# Altium footprint library Microcontrollers.PcbLib: 14 footprints
Each footprint in its own frame and in the unit in brackets; x right, y up, seen from the top. Pads: shape width x height; smd on the part's side, far side on the other; paste and mask are expansions set on the pad; w line width, h text height; cw(c..) or ccw(c..) is an arc to the next point about the centre after c.
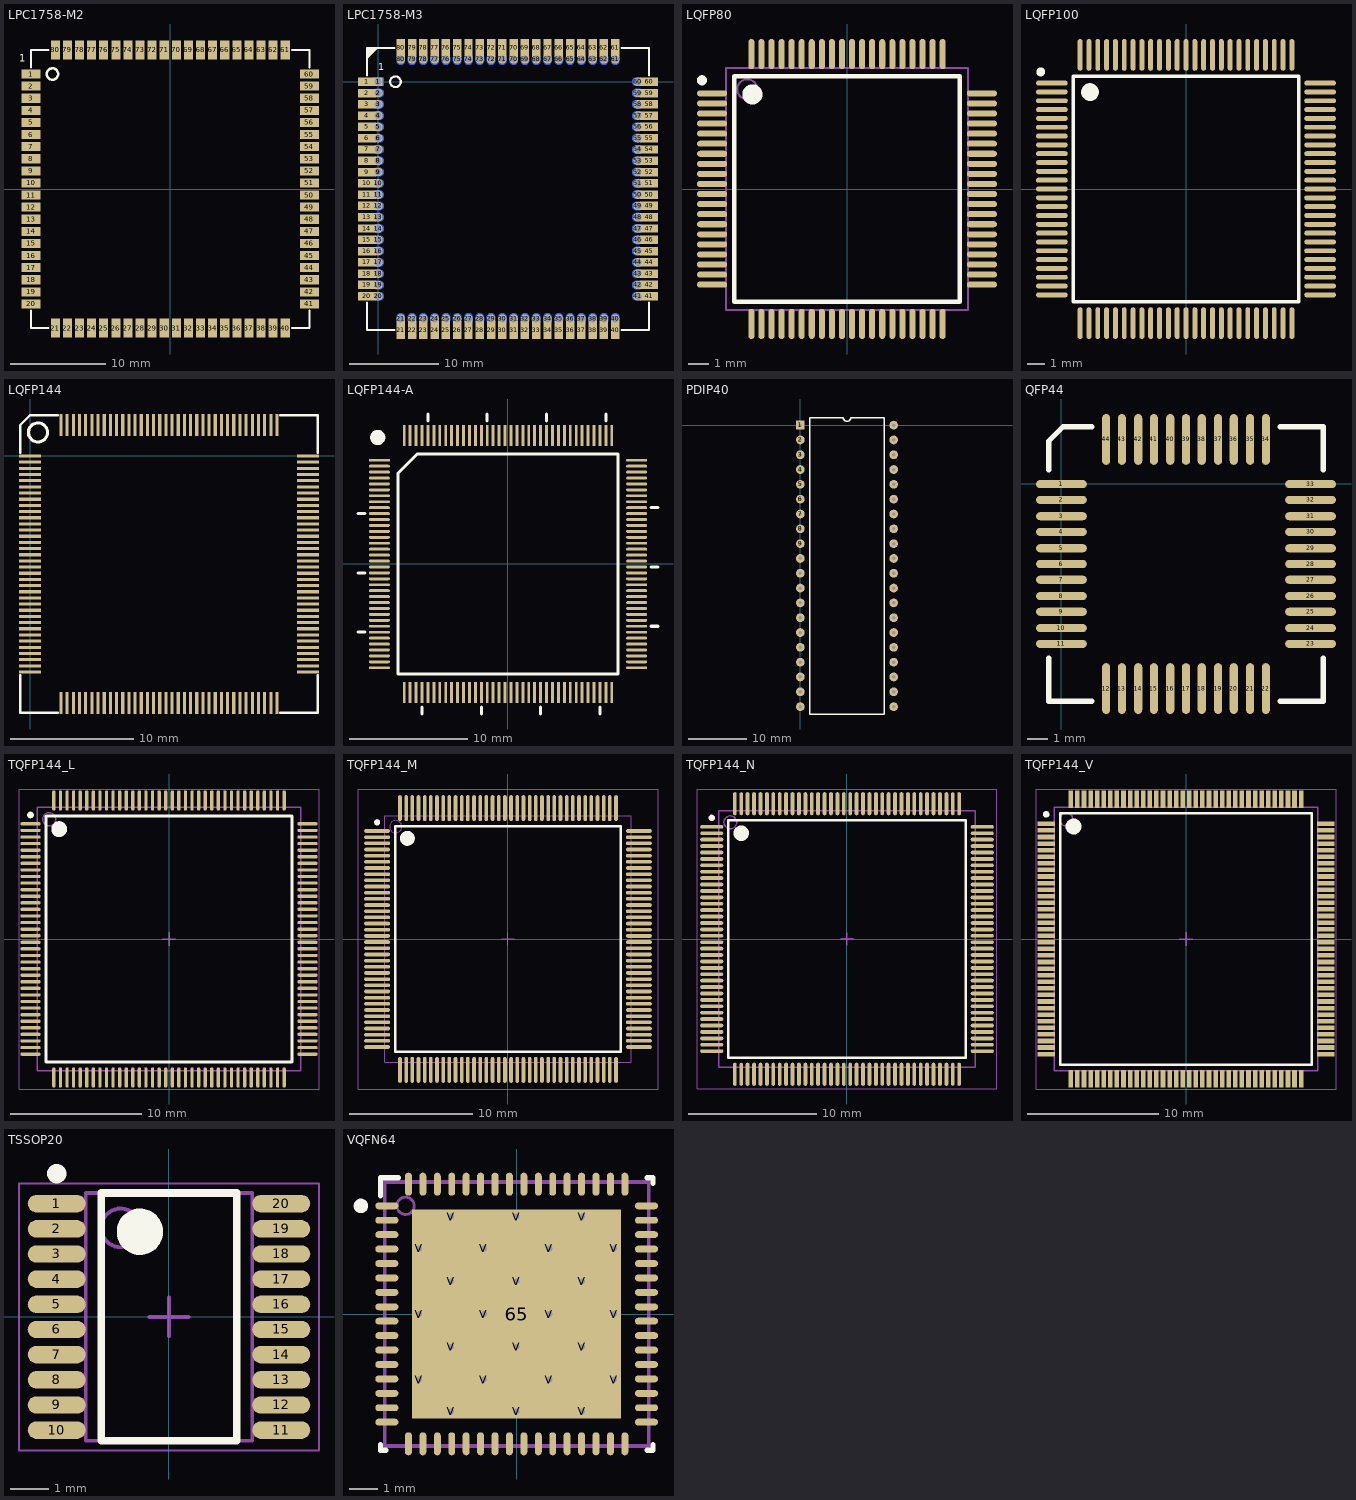
[diagram p0: the footprints below, top view; thin cyan lines are the x and y axes]

## LPC1758-M2 [mm] "LPC1758 Module"
pads (80):
  rect 2x0.95 smd mask+0.051: 1(-14.605,12.065) 2(-14.605,10.795) 3(-14.605,9.525) 4(-14.605,8.255) 5(-14.605,6.985) 6(-14.605,5.715) 7(-14.605,4.445) 8(-14.605,3.175) 9(-14.605,1.905) 10(-14.605,0.635) 11(-14.605,-0.635) 12(-14.605,-1.905) 13(-14.605,-3.175) 14(-14.605,-4.445) 15(-14.605,-5.715) 16(-14.605,-6.985) 17(-14.605,-8.255) 18(-14.605,-9.525) 19(-14.605,-10.795) 20(-14.605,-12.065) 41(14.605,-12.065) 42(14.605,-10.795) 43(14.605,-9.525) 44(14.605,-8.255) 45(14.605,-6.985) 46(14.605,-5.715) 47(14.605,-4.445) 48(14.605,-3.175) 49(14.605,-1.905) 50(14.605,-0.635) 51(14.605,0.635) 52(14.605,1.905) 53(14.605,3.175) 54(14.605,4.445) 55(14.605,5.715) 56(14.605,6.985) 57(14.605,8.255) 58(14.605,9.525) 59(14.605,10.795) 60(14.605,12.065)
  rect 0.95x2 smd mask+0.051: 21(-12.065,-14.605) 22(-10.795,-14.605) 23(-9.525,-14.605) 24(-8.255,-14.605) 25(-6.985,-14.605) 26(-5.715,-14.605) 27(-4.445,-14.605) 28(-3.175,-14.605) 29(-1.905,-14.605) 30(-0.635,-14.605) 31(0.635,-14.605) 32(1.905,-14.605) 33(3.175,-14.605) 34(4.445,-14.605) 35(5.715,-14.605) 36(6.985,-14.605) 37(8.255,-14.605) 38(9.525,-14.605) 39(10.795,-14.605) 40(12.065,-14.605) 61(12.065,14.605) 62(10.795,14.605) 63(9.525,14.605) 64(8.255,14.605) 65(6.985,14.605) 66(5.715,14.605) 67(4.445,14.605) 68(3.175,14.605) 69(1.905,14.605) 70(0.635,14.605) 71(-0.635,14.605) 72(-1.905,14.605) 73(-3.175,14.605) 74(-4.445,14.605) 75(-5.715,14.605) 76(-6.985,14.605) 77(-8.255,14.605) 78(-9.525,14.605) 79(-10.795,14.605) 80(-12.065,14.605)
Top Overlay:
  circle w0.254: c-12.365,12.065 r0.6
  lines w0.2: -14.605,-12.755 -14.605,-14.605 -12.755,-14.605 ; -14.605,12.765 -14.605,14.605 -12.755,14.605 ; 12.745,-14.605 14.605,-14.605 14.605,-12.755 ; 12.745,14.605 14.605,14.605 14.605,12.765
  text "1" at -15.875,13.335 h0.76

## LPC1758-M3 [mm] "LPC1758 Module"
pads (240):
  rect 2x0.95 smd mask+0.051: 1(-1.27,0) 2(-1.27,-1.27) 3(-1.27,-2.54) 4(-1.27,-3.81) 5(-1.27,-5.08) 6(-1.27,-6.35) 7(-1.27,-7.62) 8(-1.27,-8.89) 9(-1.27,-10.16) 10(-1.27,-11.43) 11(-1.27,-12.7) 12(-1.27,-13.97) 13(-1.27,-15.24) 14(-1.27,-16.51) 15(-1.27,-17.78) 16(-1.27,-19.05) 17(-1.27,-20.32) 18(-1.27,-21.59) 19(-1.27,-22.86) 20(-1.27,-24.13) 41(30.48,-24.13) 42(30.48,-22.86) 43(30.48,-21.59) 44(30.48,-20.32) 45(30.48,-19.05) 46(30.48,-17.78) 47(30.48,-16.51) 48(30.48,-15.24) 49(30.48,-13.97) 50(30.48,-12.7) 51(30.48,-11.43) 52(30.48,-10.16) 53(30.48,-8.89) 54(30.48,-7.62) 55(30.48,-6.35) 56(30.48,-5.08) 57(30.48,-3.81) 58(30.48,-2.54) 59(30.48,-1.27) 60(30.48,0)
  rect 1x0.94 hole 0.8 mask+0.051: 1(0,0)
  rect 1.3x0.95 smd far side mask+0.051: 1(0,0)
  oval 1x0.94 hole 0.8 mask+0.051: 2(0,-1.27) 3(0,-2.54) 4(0,-3.81) 5(0,-5.08) 6(0,-6.35) 7(0,-7.62) 8(0,-8.89) 9(0,-10.16) 10(0,-11.43) 11(0,-12.7) 12(0,-13.97) 13(0,-15.24) 14(0,-16.51) 15(0,-17.78) 16(0,-19.05) 17(0,-20.32) 18(0,-21.59) 19(0,-22.86) 20(0,-24.13) 41(29.21,-24.13) 42(29.21,-22.86) 43(29.21,-21.59) 44(29.21,-20.32) 45(29.21,-19.05) 46(29.21,-17.78) 47(29.21,-16.51) 48(29.21,-15.24) 49(29.21,-13.97) 50(29.21,-12.7) 51(29.21,-11.43) 52(29.21,-10.16) 53(29.21,-8.89) 54(29.21,-7.62) 55(29.21,-6.35) 56(29.21,-5.08) 57(29.21,-3.81) 58(29.21,-2.54) 59(29.21,-1.27) 60(29.21,0)
  oval 1.3x0.95 smd far side mask+0.051: 2(0,-1.27) 3(0,-2.54) 4(0,-3.81) 5(0,-5.08) 6(0,-6.35) 7(0,-7.62) 8(0,-8.89) 9(0,-10.16) 10(0,-11.43) 11(0,-12.7) 12(0,-13.97) 13(0,-15.24) 14(0,-16.51) 15(0,-17.78) 16(0,-19.05) 17(0,-20.32) 18(0,-21.59) 19(0,-22.86) 20(0,-24.13) 41(29.21,-24.13) 42(29.21,-22.86) 43(29.21,-21.59) 44(29.21,-20.32) 45(29.21,-19.05) 46(29.21,-17.78) 47(29.21,-16.51) 48(29.21,-15.24) 49(29.21,-13.97) 50(29.21,-12.7) 51(29.21,-11.43) 52(29.21,-10.16) 53(29.21,-8.89) 54(29.21,-7.62) 55(29.21,-6.35) 56(29.21,-5.08) 57(29.21,-3.81) 58(29.21,-2.54) 59(29.21,-1.27) 60(29.21,0)
  rect 0.95x2 smd mask+0.051: 21(2.54,-27.94) 22(3.81,-27.94) 23(5.08,-27.94) 24(6.35,-27.94) 25(7.62,-27.94) 26(8.89,-27.94) 27(10.16,-27.94) 28(11.43,-27.94) 29(12.7,-27.94) 30(13.97,-27.94) 31(15.24,-27.94) 32(16.51,-27.94) 33(17.78,-27.94) 34(19.05,-27.94) 35(20.32,-27.94) 36(21.59,-27.94) 37(22.86,-27.94) 38(24.13,-27.94) 39(25.4,-27.94) 40(26.67,-27.94) 61(26.67,3.81) 62(25.4,3.81) 63(24.13,3.81) 64(22.86,3.81) 65(21.59,3.81) 66(20.32,3.81) 67(19.05,3.81) 68(17.78,3.81) 69(16.51,3.81) 70(15.24,3.81) 71(13.97,3.81) 72(12.7,3.81) 73(11.43,3.81) 74(10.16,3.81) 75(8.89,3.81) 76(7.62,3.81) 77(6.35,3.81) 78(5.08,3.81) 79(3.81,3.81) 80(2.54,3.81)
  oval 0.94x1 hole 0.8 mask+0.051: 21(2.54,-26.67) 22(3.81,-26.67) 23(5.08,-26.67) 24(6.35,-26.67) 25(7.62,-26.67) 26(8.89,-26.67) 27(10.16,-26.67) 28(11.43,-26.67) 29(12.7,-26.67) 30(13.97,-26.67) 31(15.24,-26.67) 32(16.51,-26.67) 33(17.78,-26.67) 34(19.05,-26.67) 35(20.32,-26.67) 36(21.59,-26.67) 37(22.86,-26.67) 38(24.13,-26.67) 39(25.4,-26.67) 40(26.67,-26.67) 61(26.67,2.54) 62(25.4,2.54) 63(24.13,2.54) 64(22.86,2.54) 65(21.59,2.54) 66(20.32,2.54) 67(19.05,2.54) 68(17.78,2.54) 69(16.51,2.54) 70(15.24,2.54) 71(13.97,2.54) 72(12.7,2.54) 73(11.43,2.54) 74(10.16,2.54) 75(8.89,2.54) 76(7.62,2.54) 77(6.35,2.54) 78(5.08,2.54) 79(3.81,2.54) 80(2.54,2.54)
  oval 0.95x1.3 smd far side mask+0.051: 21(2.54,-26.67) 22(3.81,-26.67) 23(5.08,-26.67) 24(6.35,-26.67) 25(7.62,-26.67) 26(8.89,-26.67) 27(10.16,-26.67) 28(11.43,-26.67) 29(12.7,-26.67) 30(13.97,-26.67) 31(15.24,-26.67) 32(16.51,-26.67) 33(17.78,-26.67) 34(19.05,-26.67) 35(20.32,-26.67) 36(21.59,-26.67) 37(22.86,-26.67) 38(24.13,-26.67) 39(25.4,-26.67) 40(26.67,-26.67) 61(26.67,2.54) 62(25.4,2.54) 63(24.13,2.54) 64(22.86,2.54) 65(21.59,2.54) 66(20.32,2.54) 67(19.05,2.54) 68(17.78,2.54) 69(16.51,2.54) 70(15.24,2.54) 71(13.97,2.54) 72(12.7,2.54) 73(11.43,2.54) 74(10.16,2.54) 75(8.89,2.54) 76(7.62,2.54) 77(6.35,2.54) 78(5.08,2.54) 79(3.81,2.54) 80(2.54,2.54)
Top Overlay:
  circle w0.254: c1.94,0 r0.6
  region: -1.27,3.81 0,3.81 -1.27,2.54
  lines w0.2: -1.27,-24.82 -1.27,-27.94 1.85,-27.94 ; -1.27,0.7 -1.27,3.81 1.85,3.81 ; 27.35,-27.94 30.48,-27.94 30.48,-24.82 ; 27.36,3.81 30.48,3.81 30.48,0.7
  text "1" at 0,1.27 h0.76

## LQFP80 [mm] "12X12X05P"
pads (80):
  oval 1.5x0.3 smd: 1(-6.7,4.75) 2(-6.7,4.25) 3(-6.7,3.75) 4(-6.7,3.25) 5(-6.7,2.75) 6(-6.7,2.25) 7(-6.7,1.75) 8(-6.7,1.25) 9(-6.7,0.75) 10(-6.7,0.25) 11(-6.7,-0.25) 12(-6.7,-0.75) 13(-6.7,-1.25) 14(-6.7,-1.75) 15(-6.7,-2.25) 16(-6.7,-2.75) 17(-6.7,-3.25) 18(-6.7,-3.75) 19(-6.7,-4.25) 20(-6.7,-4.75) 41(6.7,-4.75) 42(6.7,-4.25) 43(6.7,-3.75) 44(6.7,-3.25) 45(6.7,-2.75) 46(6.7,-2.25) 47(6.7,-1.75) 48(6.7,-1.25) 49(6.7,-0.75) 50(6.7,-0.25) 51(6.7,0.25) 52(6.7,0.75) 53(6.7,1.25) 54(6.7,1.75) 55(6.7,2.25) 56(6.7,2.75) 57(6.7,3.25) 58(6.7,3.75) 59(6.7,4.25) 60(6.7,4.75)
  oval 0.3x1.5 smd: 21(-4.75,-6.7) 22(-4.25,-6.7) 23(-3.75,-6.7) 24(-3.25,-6.7) 25(-2.75,-6.7) 26(-2.25,-6.7) 27(-1.75,-6.7) 28(-1.25,-6.7) 29(-0.75,-6.7) 30(-0.25,-6.7) 31(0.25,-6.7) 32(0.75,-6.7) 33(1.25,-6.7) 34(1.75,-6.7) 35(2.25,-6.7) 36(2.75,-6.7) 37(3.25,-6.7) 38(3.75,-6.7) 39(4.25,-6.7) 40(4.75,-6.7) 61(4.75,6.7) 62(4.25,6.7) 63(3.75,6.7) 64(3.25,6.7) 65(2.75,6.7) 66(2.25,6.7) 67(1.75,6.7) 68(1.25,6.7) 69(0.75,6.7) 70(0.25,6.7) 71(-0.25,6.7) 72(-0.75,6.7) 73(-1.25,6.7) 74(-1.75,6.7) 75(-2.25,6.7) 76(-2.75,6.7) 77(-3.25,6.7) 78(-3.75,6.7) 79(-4.25,6.7) 80(-4.75,6.7)
Top Overlay:
  circle w0.5: c-4.7,4.7 r0.25
  circle w0.25: c-7.2,5.4 r0.125
  lines w0.2: -5.6,-5.6 -5.6,5.6 5.6,5.6 5.6,-5.6 -5.6,-5.6
Mechanical 15:
  circle w0.1: c-4.95,4.95 r0.5
  lines w0.1: -6,-6 -6,6 6,6 6,-6 -6,-6

## LQFP100 [mm] "LQFP100  LPC1768"
height 1.6
pads (100):
  oval 1.8x0.28 smd: 1(-7.6,6) 2(-7.6,5.5) 3(-7.6,5) 4(-7.6,4.5) 5(-7.6,4) 6(-7.6,3.5) 7(-7.6,3) 8(-7.6,2.5) 9(-7.6,2) 10(-7.6,1.5) 11(-7.6,1) 12(-7.6,0.5) 13(-7.6,0) 14(-7.6,-0.5) 15(-7.6,-1) 16(-7.6,-1.5) 17(-7.6,-2) 18(-7.6,-2.5) 19(-7.6,-3) 20(-7.6,-3.5) 21(-7.6,-4) 22(-7.6,-4.5) 23(-7.6,-5) 24(-7.6,-5.5) 25(-7.6,-6) 51(7.6,-6) 52(7.6,-5.5) 53(7.6,-5) 54(7.6,-4.5) 55(7.6,-4) 56(7.6,-3.5) 57(7.6,-3) 58(7.6,-2.5) 59(7.6,-2) 60(7.6,-1.5) 61(7.6,-1) 62(7.6,-0.5) 63(7.6,0) 64(7.6,0.5) 65(7.6,1) 66(7.6,1.5) 67(7.6,2) 68(7.6,2.5) 69(7.6,3) 70(7.6,3.5) 71(7.6,4) 72(7.6,4.5) 73(7.6,5) 74(7.6,5.5) 75(7.6,6)
  oval 0.28x1.8 smd: 26(-6,-7.6) 27(-5.5,-7.6) 28(-5,-7.6) 29(-4.5,-7.6) 30(-4,-7.6) 31(-3.5,-7.6) 32(-3,-7.6) 33(-2.5,-7.6) 34(-2,-7.6) 35(-1.5,-7.6) 36(-1,-7.6) 37(-0.5,-7.6) 38(0,-7.6) 39(0.5,-7.6) 40(1,-7.6) 41(1.5,-7.6) 42(2,-7.6) 43(2.5,-7.6) 44(3,-7.6) 45(3.5,-7.6) 46(4,-7.6) 47(4.5,-7.6) 48(5,-7.6) 49(5.5,-7.6) 50(6,-7.6) 76(6,7.6) 77(5.5,7.6) 78(5,7.6) 79(4.5,7.6) 80(4,7.6) 81(3.5,7.6) 82(3,7.6) 83(2.5,7.6) 84(2,7.6) 85(1.5,7.6) 86(1,7.6) 87(0.5,7.6) 88(0,7.6) 89(-0.5,7.6) 90(-1,7.6) 91(-1.5,7.6) 92(-2,7.6) 93(-2.5,7.6) 94(-3,7.6) 95(-3.5,7.6) 96(-4,7.6) 97(-4.5,7.6) 98(-5,7.6) 99(-5.5,7.6) 100(-6,7.6)
Top Overlay:
  circle w0.5: c-5.442,5.493 r0.25
  circle w0.25: c-8.233,6.635 r0.125
  lines w0.2: -6.4,-6.4 6.4,-6.4 6.4,6.4 -6.4,6.4 -6.4,-6.4

## LQFP144 [mm]
pads (144):
  rect 1.8x0.254 smd: 1(-0.009,0.001) 2(-0.009,-0.499) 3(-0.009,-0.999) 4(-0.009,-1.499) 5(-0.009,-1.999) 6(-0.009,-2.499) 7(-0.009,-2.999) 8(-0.009,-3.499) 9(-0.009,-3.999) 10(-0.009,-4.499) 11(-0.009,-4.999) 12(-0.009,-5.499) 13(-0.009,-5.999) 14(-0.009,-6.499) 15(-0.009,-6.999) 16(-0.009,-7.499) 17(-0.009,-7.999) 18(-0.009,-8.499) 19(-0.009,-8.999) 20(-0.009,-9.499) 21(-0.009,-9.999) 22(-0.009,-10.499) 23(-0.009,-10.999) 24(-0.009,-11.499) 25(-0.009,-11.999) 26(-0.009,-12.499) 27(-0.009,-12.999) 28(-0.009,-13.499) 29(-0.009,-13.999) 30(-0.009,-14.499) 31(-0.009,-14.999) 32(-0.009,-15.499) 33(-0.009,-15.999) 34(-0.009,-16.499) 35(-0.009,-16.999) 36(-0.009,-17.499) 73(22.491,-17.499) 74(22.491,-16.999) 75(22.491,-16.499) 76(22.491,-15.999) 77(22.491,-15.499) 78(22.491,-14.999) 79(22.491,-14.499) 80(22.491,-13.999) 81(22.491,-13.499) 82(22.491,-12.999) 83(22.491,-12.499) 84(22.491,-11.999) 85(22.491,-11.499) 86(22.491,-10.999) 87(22.491,-10.499) 88(22.491,-9.999) 89(22.491,-9.499) 90(22.491,-8.999) 91(22.491,-8.499) 92(22.491,-7.999) 93(22.491,-7.499) 94(22.491,-6.999) 95(22.491,-6.499) 96(22.491,-5.999) 97(22.491,-5.499) 98(22.491,-4.999) 99(22.491,-4.499) 100(22.491,-3.999) 101(22.491,-3.499) 102(22.491,-2.999) 103(22.491,-2.499) 104(22.491,-1.999) 105(22.491,-1.499) 106(22.491,-0.999) 107(22.491,-0.499) 108(22.491,0.001)
  rect 0.254x1.8 smd: 37(2.491,-19.999) 38(2.991,-19.999) 39(3.491,-19.999) 40(3.991,-19.999) 41(4.491,-19.999) 42(4.991,-19.999) 43(5.491,-19.999) 44(5.991,-19.999) 45(6.491,-19.999) 46(6.991,-19.999) 47(7.491,-19.999) 48(7.991,-19.999) 49(8.491,-19.999) 50(8.991,-19.999) 51(9.491,-19.999) 52(9.991,-19.999) 53(10.491,-19.999) 54(10.991,-19.999) 55(11.491,-19.999) 56(11.991,-19.999) 57(12.491,-19.999) 58(12.991,-19.999) 59(13.491,-19.999) 60(13.991,-19.999) 61(14.491,-19.999) 62(14.991,-19.999) 63(15.491,-19.999) 64(15.991,-19.999) 65(16.491,-19.999) 66(16.991,-19.999) 67(17.491,-19.999) 68(17.991,-19.999) 69(18.491,-19.999) 70(18.991,-19.999) 71(19.491,-19.999) 72(19.991,-19.999) 109(19.991,2.501) 110(19.491,2.501) 111(18.991,2.501) 112(18.491,2.501) 113(17.991,2.501) 114(17.491,2.501) 115(16.991,2.501) 116(16.491,2.501) 117(15.991,2.501) 118(15.491,2.501) 119(14.991,2.501) 120(14.491,2.501) 121(13.991,2.501) 122(13.491,2.501) 123(12.991,2.501) 124(12.491,2.501) 125(11.991,2.501) 126(11.491,2.501) 127(10.991,2.501) 128(10.491,2.501) 129(9.991,2.501) 130(9.491,2.501) 131(8.991,2.501) 132(8.491,2.501) 133(7.991,2.501) 134(7.491,2.501) 135(6.991,2.501) 136(6.491,2.501) 137(5.991,2.501) 138(5.491,2.501) 139(4.991,2.501) 140(4.491,2.501) 141(3.991,2.501) 142(3.491,2.501) 143(2.991,2.501) 144(2.491,2.501)
Top Overlay:
  circle w0.254: c0.624,1.905 r0.773
  lines w0.2: -0.809,-17.749 -0.809,-20.799 2.241,-20.799 ; -0.809,0.251 -0.809,2.501 -0.009,3.301 2.241,3.301 ; 20.241,-20.799 23.291,-20.799 23.291,-17.749 ; 20.241,3.301 23.291,3.301 23.291,0.251

## LQFP144-A [mil]
pads (144):
  rect 70x9.5 smd: 1(-427.16,344.49)
  oval 70x9.5 smd: 2(-427.16,324.8) 3(-427.16,305.12) 4(-427.16,285.43) 5(-427.16,265.75) 6(-427.16,246.06) 7(-427.16,226.38) 8(-427.16,206.69) 9(-427.16,187.01) 10(-427.16,167.32) 11(-427.16,147.64) 12(-427.16,127.95) 13(-427.16,108.27) 14(-427.16,88.58) 15(-427.16,68.9) 16(-427.16,49.21) 17(-427.16,29.53) 18(-427.16,9.84) 19(-427.16,-9.84) 20(-427.16,-29.53) 21(-427.16,-49.21) 22(-427.16,-68.9) 23(-427.16,-88.58) 24(-427.16,-108.27) 25(-427.16,-127.95) 26(-427.16,-147.64) 27(-427.16,-167.32) 28(-427.16,-187.01) 29(-427.16,-206.69) 30(-427.16,-226.38) 31(-427.16,-246.06) 32(-427.16,-265.75) 33(-427.16,-285.43) 34(-427.16,-305.12) 35(-427.16,-324.8) 36(-427.16,-344.49) 73(427.16,-344.49) 74(427.16,-324.8) 75(427.16,-305.12) 76(427.16,-285.43) 77(427.16,-265.75) 78(427.16,-246.06) 79(427.16,-226.38) 80(427.16,-206.69) 81(427.16,-187.01) 82(427.16,-167.32) 83(427.16,-147.64) 84(427.16,-127.95) 85(427.16,-108.27) 86(427.16,-88.58) 87(427.16,-68.9) 88(427.16,-49.21) 89(427.16,-29.53) 90(427.16,-9.84) 91(427.16,9.84) 92(427.16,29.53) 93(427.16,49.21) 94(427.16,68.9) 95(427.16,88.58) 96(427.16,108.27) 97(427.16,127.95) 98(427.16,147.64) 99(427.16,167.32) 100(427.16,187.01) 101(427.16,206.69) 102(427.16,226.38) 103(427.16,246.06) 104(427.16,265.75) 105(427.16,285.43) 106(427.16,305.12) 107(427.16,324.8) 108(427.16,344.49)
  rect 9.5x70 smd: 37(-344.49,-427.16) 38(-324.8,-427.16) 39(-305.12,-427.16) 40(-285.43,-427.16) 41(-265.75,-427.16) 42(-246.06,-427.16) 43(-226.38,-427.16) 44(-206.69,-427.16) 45(-187.01,-427.16) 46(-167.32,-427.16) 47(-147.64,-427.16) 48(-127.95,-427.16) 49(-108.27,-427.16) 50(-88.58,-427.16) 51(-68.9,-427.16) 52(-49.21,-427.16) 53(-29.53,-427.16) 54(-9.84,-427.16) 55(9.84,-427.16) 56(29.53,-427.16) 57(49.21,-427.16) 58(68.9,-427.16) 59(88.58,-427.16) 60(108.27,-427.16) 61(127.95,-427.16) 62(147.64,-427.16) 63(167.32,-427.16) 64(187.01,-427.16) 65(206.69,-427.16) 66(226.38,-427.16) 67(246.06,-427.16) 68(265.75,-427.16) 69(285.43,-427.16) 70(305.12,-427.16) 71(324.8,-427.16) 72(344.49,-427.16) 109(344.49,427.17) 110(324.8,427.17) 111(305.12,427.17) 112(285.43,427.17) 113(265.75,427.17) 114(246.06,427.17) 115(226.38,427.17) 116(206.69,427.17) 117(187.01,427.17) 118(167.32,427.17) 119(147.64,427.17) 120(127.95,427.17) 121(108.27,427.17) 122(88.58,427.17) 123(68.9,427.17) 124(49.21,427.17) 125(29.53,427.17) 126(9.84,427.17) 127(-9.84,427.17) 128(-29.53,427.17) 129(-49.21,427.17) 130(-68.9,427.17) 131(-88.58,427.17) 132(-108.27,427.17) 133(-127.95,427.17) 134(-147.64,427.17) 135(-167.32,427.17) 136(-187.01,427.17) 137(-206.69,427.17) 138(-226.38,427.17) 139(-246.06,427.17) 140(-265.75,427.17) 141(-285.43,427.17) 142(-305.12,427.17) 143(-324.8,427.17) 144(-344.49,427.17)
Top Overlay:
  circle w25: c-432.5,420 r12.5
  lines w10: -498.03,-226.34 -474.53,-226.34 ; -498.03,-29.53 -474.53,-29.53 ; -498.03,167.32 -474.41,167.32 ; -285.43,-498.03 -285.43,-474.41 ; -265.67,474.37 -265.67,498.03 ; -88.66,-498.03 -88.66,-474.41 ; -68.97,474.37 -68.97,498.03 ; 108.23,-498.03 108.23,-474.41 ; 127.91,474.37 127.91,498.03 ; 305.12,-498.03 305.12,-474.41 ; 324.69,474.37 324.69,498.03 ; 474.45,-206.69 498.03,-206.69 ; 474.45,-9.84 498.03,-9.84 ; 474.45,187.09 498.03,187.09 ; -364.76,-364.76 -364.76,302.36 -302.36,364.76 364.76,364.76 364.76,-364.76 -364.76,-364.76

## PDIP40 [mm]
pads (40):
  rect 1.5x1.5 hole 0.6: 1(0,0)
  round 1.5 hole 0.6: 2(0,-2.54) 3(0,-5.08) 4(0,-7.62) 5(0,-10.16) 6(0,-12.7) 7(0,-15.24) 8(0,-17.78) 9(0,-20.32) 10(0,-22.86) 11(0,-25.4) 12(0,-27.94) 13(0,-30.48) 14(0,-33.02) 15(0,-35.56) 16(0,-38.1) 17(0,-40.64) 18(0,-43.18) 19(0,-45.72) 20(0,-48.26) 21(16,-48.26) 22(16,-45.72) 23(16,-43.18) 24(16,-40.64) 25(16,-38.1) 26(16,-35.56) 27(16,-33.02) 28(16,-30.48) 29(16,-27.94) 30(16,-25.4) 31(16,-22.86) 32(16,-20.32) 33(16,-17.78) 34(16,-15.24) 35(16,-12.7) 36(16,-10.16) 37(16,-7.62) 38(16,-5.08) 39(16,-2.54) 40(16,0)
Top Overlay:
  lines w0.254: 1.639,-49.53 14.361,-49.53 14.361,1.27 8.635,1.27 cw(c8,1.27) 7.365,1.27 1.639,1.27 1.639,-49.53

## QFP44 [mil]
pads (44):
  oval 100x16 smd: 1(-0.02,-0.43) 2(-0.02,-31.43) 3(-0.02,-63.43) 4(-0.02,-94.43) 5(-0.02,-126.43) 6(-0.02,-157.43) 7(-0.02,-188.43) 8(-0.02,-220.43) 9(-0.02,-251.43) 10(-0.02,-283.43) 11(-0.02,-314.43) 23(489.98,-314.43) 24(489.98,-283.43) 25(489.98,-251.43) 26(489.98,-220.43) 27(489.98,-188.43) 28(489.98,-157.43) 29(489.98,-126.43) 30(489.98,-94.43) 31(489.98,-63.43) 32(489.98,-31.43) 33(489.98,-0.43)
  oval 16x100 smd: 12(87.98,-402.43) 13(118.98,-402.43) 14(150.98,-402.43) 15(181.98,-402.43) 16(213.98,-402.43) 17(244.98,-402.43) 18(275.98,-402.43) 19(307.98,-402.43) 20(338.98,-402.43) 21(370.98,-402.43) 22(401.98,-402.43) 34(401.98,87.57) 35(370.98,87.57) 36(338.98,87.57) 37(307.98,87.57) 38(275.98,87.57) 39(244.98,87.57) 40(213.98,87.57) 41(181.98,87.57) 42(150.98,87.57) 43(118.98,87.57) 44(87.98,87.57)
Top Overlay:
  lines w10: -25.02,-342.43 -25.02,-427.43 59.98,-427.43 ; -25.02,27.57 -25.02,84.57 2.98,112.57 59.98,112.57 ; 429.98,-427.43 514.98,-427.43 514.98,-342.43 ; 429.98,112.57 514.98,112.57 514.98,27.57

## TQFP144_L [mm] "Thin QFP, 144-Leads, Body 20x20mm, Pitch 0.5mm, IPC High Density"
height 1.6
pads (144):
  oval 1.55x0.25 smd: 1(-10.525,8.75) 2(-10.525,8.25) 3(-10.525,7.75) 4(-10.525,7.25) 5(-10.525,6.75) 6(-10.525,6.25) 7(-10.525,5.75) 8(-10.525,5.25) 9(-10.525,4.75) 10(-10.525,4.25) 11(-10.525,3.75) 12(-10.525,3.25) 13(-10.525,2.75) 14(-10.525,2.25) 15(-10.525,1.75) 16(-10.525,1.25) 17(-10.525,0.75) 18(-10.525,0.25) 19(-10.525,-0.25) 20(-10.525,-0.75) 21(-10.525,-1.25) 22(-10.525,-1.75) 23(-10.525,-2.25) 24(-10.525,-2.75) 25(-10.525,-3.25) 26(-10.525,-3.75) 27(-10.525,-4.25) 28(-10.525,-4.75) 29(-10.525,-5.25) 30(-10.525,-5.75) 31(-10.525,-6.25) 32(-10.525,-6.75) 33(-10.525,-7.25) 34(-10.525,-7.75) 35(-10.525,-8.25) 36(-10.525,-8.75) 73(10.525,-8.75) 74(10.525,-8.25) 75(10.525,-7.75) 76(10.525,-7.25) 77(10.525,-6.75) 78(10.525,-6.25) 79(10.525,-5.75) 80(10.525,-5.25) 81(10.525,-4.75) 82(10.525,-4.25) 83(10.525,-3.75) 84(10.525,-3.25) 85(10.525,-2.75) 86(10.525,-2.25) 87(10.525,-1.75) 88(10.525,-1.25) 89(10.525,-0.75) 90(10.525,-0.25) 91(10.525,0.25) 92(10.525,0.75) 93(10.525,1.25) 94(10.525,1.75) 95(10.525,2.25) 96(10.525,2.75) 97(10.525,3.25) 98(10.525,3.75) 99(10.525,4.25) 100(10.525,4.75) 101(10.525,5.25) 102(10.525,5.75) 103(10.525,6.25) 104(10.525,6.75) 105(10.525,7.25) 106(10.525,7.75) 107(10.525,8.25) 108(10.525,8.75)
  oval 0.25x1.55 smd: 37(-8.75,-10.525) 38(-8.25,-10.525) 39(-7.75,-10.525) 40(-7.25,-10.525) 41(-6.75,-10.525) 42(-6.25,-10.525) 43(-5.75,-10.525) 44(-5.25,-10.525) 45(-4.75,-10.525) 46(-4.25,-10.525) 47(-3.75,-10.525) 48(-3.25,-10.525) 49(-2.75,-10.525) 50(-2.25,-10.525) 51(-1.75,-10.525) 52(-1.25,-10.525) 53(-0.75,-10.525) 54(-0.25,-10.525) 55(0.25,-10.525) 56(0.75,-10.525) 57(1.25,-10.525) 58(1.75,-10.525) 59(2.25,-10.525) 60(2.75,-10.525) 61(3.25,-10.525) 62(3.75,-10.525) 63(4.25,-10.525) 64(4.75,-10.525) 65(5.25,-10.525) 66(5.75,-10.525) 67(6.25,-10.525) 68(6.75,-10.525) 69(7.25,-10.525) 70(7.75,-10.525) 71(8.25,-10.525) 72(8.75,-10.525) 109(8.75,10.525) 110(8.25,10.525) 111(7.75,10.525) 112(7.25,10.525) 113(6.75,10.525) 114(6.25,10.525) 115(5.75,10.525) 116(5.25,10.525) 117(4.75,10.525) 118(4.25,10.525) 119(3.75,10.525) 120(3.25,10.525) 121(2.75,10.525) 122(2.25,10.525) 123(1.75,10.525) 124(1.25,10.525) 125(0.75,10.525) 126(0.25,10.525) 127(-0.25,10.525) 128(-0.75,10.525) 129(-1.25,10.525) 130(-1.75,10.525) 131(-2.25,10.525) 132(-2.75,10.525) 133(-3.25,10.525) 134(-3.75,10.525) 135(-4.25,10.525) 136(-4.75,10.525) 137(-5.25,10.525) 138(-5.75,10.525) 139(-6.25,10.525) 140(-6.75,10.525) 141(-7.25,10.525) 142(-7.75,10.525) 143(-8.25,10.525) 144(-8.75,10.525)
Top Overlay:
  circle w0.25: c-10.525,9.425 r0.125
  circle w0.6: c-8.35,8.35 r0.3
  lines w0.2: -9.35,-9.35 -9.35,9.35 9.35,9.35 9.35,-9.35 -9.35,-9.35
Mechanical 13:
  circle w0.1: c-9.1,9.1 r0.5
  lines w0.1: -10,-10 -10,10 10,10 10,-10 -10,-10
Mechanical 15:
  lines w0.05: -11.4,-11.4 -11.4,11.4 11.4,11.4 11.4,-11.4 -11.4,-11.4
  lines w0.1: -0.5,0 0.5,0 ; 0,-0.5 0,0.5
3D body: height 1.6, standoff 0, extent -10,-10 10,10

## TQFP144_M [mm] "Thin QFP, 144-Leads, Body 20x20mm, Pitch 0.5mm, IPC Low Density"
height 1.6
pads (144):
  oval 2.1x0.3 smd: 1(-10.6,8.75) 2(-10.6,8.25) 3(-10.6,7.75) 4(-10.6,7.25) 5(-10.6,6.75) 6(-10.6,6.25) 7(-10.6,5.75) 8(-10.6,5.25) 9(-10.6,4.75) 10(-10.6,4.25) 11(-10.6,3.75) 12(-10.6,3.25) 13(-10.6,2.75) 14(-10.6,2.25) 15(-10.6,1.75) 16(-10.6,1.25) 17(-10.6,0.75) 18(-10.6,0.25) 19(-10.6,-0.25) 20(-10.6,-0.75) 21(-10.6,-1.25) 22(-10.6,-1.75) 23(-10.6,-2.25) 24(-10.6,-2.75) 25(-10.6,-3.25) 26(-10.6,-3.75) 27(-10.6,-4.25) 28(-10.6,-4.75) 29(-10.6,-5.25) 30(-10.6,-5.75) 31(-10.6,-6.25) 32(-10.6,-6.75) 33(-10.6,-7.25) 34(-10.6,-7.75) 35(-10.6,-8.25) 36(-10.6,-8.75) 73(10.6,-8.75) 74(10.6,-8.25) 75(10.6,-7.75) 76(10.6,-7.25) 77(10.6,-6.75) 78(10.6,-6.25) 79(10.6,-5.75) 80(10.6,-5.25) 81(10.6,-4.75) 82(10.6,-4.25) 83(10.6,-3.75) 84(10.6,-3.25) 85(10.6,-2.75) 86(10.6,-2.25) 87(10.6,-1.75) 88(10.6,-1.25) 89(10.6,-0.75) 90(10.6,-0.25) 91(10.6,0.25) 92(10.6,0.75) 93(10.6,1.25) 94(10.6,1.75) 95(10.6,2.25) 96(10.6,2.75) 97(10.6,3.25) 98(10.6,3.75) 99(10.6,4.25) 100(10.6,4.75) 101(10.6,5.25) 102(10.6,5.75) 103(10.6,6.25) 104(10.6,6.75) 105(10.6,7.25) 106(10.6,7.75) 107(10.6,8.25) 108(10.6,8.75)
  oval 0.3x2.1 smd: 37(-8.75,-10.6) 38(-8.25,-10.6) 39(-7.75,-10.6) 40(-7.25,-10.6) 41(-6.75,-10.6) 42(-6.25,-10.6) 43(-5.75,-10.6) 44(-5.25,-10.6) 45(-4.75,-10.6) 46(-4.25,-10.6) 47(-3.75,-10.6) 48(-3.25,-10.6) 49(-2.75,-10.6) 50(-2.25,-10.6) 51(-1.75,-10.6) 52(-1.25,-10.6) 53(-0.75,-10.6) 54(-0.25,-10.6) 55(0.25,-10.6) 56(0.75,-10.6) 57(1.25,-10.6) 58(1.75,-10.6) 59(2.25,-10.6) 60(2.75,-10.6) 61(3.25,-10.6) 62(3.75,-10.6) 63(4.25,-10.6) 64(4.75,-10.6) 65(5.25,-10.6) 66(5.75,-10.6) 67(6.25,-10.6) 68(6.75,-10.6) 69(7.25,-10.6) 70(7.75,-10.6) 71(8.25,-10.6) 72(8.75,-10.6) 109(8.75,10.6) 110(8.25,10.6) 111(7.75,10.6) 112(7.25,10.6) 113(6.75,10.6) 114(6.25,10.6) 115(5.75,10.6) 116(5.25,10.6) 117(4.75,10.6) 118(4.25,10.6) 119(3.75,10.6) 120(3.25,10.6) 121(2.75,10.6) 122(2.25,10.6) 123(1.75,10.6) 124(1.25,10.6) 125(0.75,10.6) 126(0.25,10.6) 127(-0.25,10.6) 128(-0.75,10.6) 129(-1.25,10.6) 130(-1.75,10.6) 131(-2.25,10.6) 132(-2.75,10.6) 133(-3.25,10.6) 134(-3.75,10.6) 135(-4.25,10.6) 136(-4.75,10.6) 137(-5.25,10.6) 138(-5.75,10.6) 139(-6.25,10.6) 140(-6.75,10.6) 141(-7.25,10.6) 142(-7.75,10.6) 143(-8.25,10.6) 144(-8.75,10.6)
Top Overlay:
  circle w0.25: c-10.6,9.45 r0.125
  circle w0.6: c-8.15,8.15 r0.3
  lines w0.2: -9.15,-9.15 -9.15,9.15 9.15,9.15 9.15,-9.15 -9.15,-9.15
Mechanical 13:
  circle w0.1: c-9.1,9.1 r0.5
  lines w0.1: -10,-10 -10,10 10,10 10,-10 -10,-10
Mechanical 15:
  lines w0.05: -12.15,-12.15 -12.15,12.15 12.15,12.15 12.15,-12.15 -12.15,-12.15
  lines w0.1: -0.5,0 0.5,0 ; 0,-0.5 0,0.5
3D body: height 1.6, standoff 0, extent -10,-10 10,10

## TQFP144_N [mm] "Thin QFP, 144-Leads, Body 20x20mm, Pitch 0.5mm, IPC Medium Density"
height 1.6
pads (144):
  oval 1.8x0.3 smd: 1(-10.55,8.75) 2(-10.55,8.25) 3(-10.55,7.75) 4(-10.55,7.25) 5(-10.55,6.75) 6(-10.55,6.25) 7(-10.55,5.75) 8(-10.55,5.25) 9(-10.55,4.75) 10(-10.55,4.25) 11(-10.55,3.75) 12(-10.55,3.25) 13(-10.55,2.75) 14(-10.55,2.25) 15(-10.55,1.75) 16(-10.55,1.25) 17(-10.55,0.75) 18(-10.55,0.25) 19(-10.55,-0.25) 20(-10.55,-0.75) 21(-10.55,-1.25) 22(-10.55,-1.75) 23(-10.55,-2.25) 24(-10.55,-2.75) 25(-10.55,-3.25) 26(-10.55,-3.75) 27(-10.55,-4.25) 28(-10.55,-4.75) 29(-10.55,-5.25) 30(-10.55,-5.75) 31(-10.55,-6.25) 32(-10.55,-6.75) 33(-10.55,-7.25) 34(-10.55,-7.75) 35(-10.55,-8.25) 36(-10.55,-8.75) 73(10.55,-8.75) 74(10.55,-8.25) 75(10.55,-7.75) 76(10.55,-7.25) 77(10.55,-6.75) 78(10.55,-6.25) 79(10.55,-5.75) 80(10.55,-5.25) 81(10.55,-4.75) 82(10.55,-4.25) 83(10.55,-3.75) 84(10.55,-3.25) 85(10.55,-2.75) 86(10.55,-2.25) 87(10.55,-1.75) 88(10.55,-1.25) 89(10.55,-0.75) 90(10.55,-0.25) 91(10.55,0.25) 92(10.55,0.75) 93(10.55,1.25) 94(10.55,1.75) 95(10.55,2.25) 96(10.55,2.75) 97(10.55,3.25) 98(10.55,3.75) 99(10.55,4.25) 100(10.55,4.75) 101(10.55,5.25) 102(10.55,5.75) 103(10.55,6.25) 104(10.55,6.75) 105(10.55,7.25) 106(10.55,7.75) 107(10.55,8.25) 108(10.55,8.75)
  oval 0.3x1.8 smd: 37(-8.75,-10.55) 38(-8.25,-10.55) 39(-7.75,-10.55) 40(-7.25,-10.55) 41(-6.75,-10.55) 42(-6.25,-10.55) 43(-5.75,-10.55) 44(-5.25,-10.55) 45(-4.75,-10.55) 46(-4.25,-10.55) 47(-3.75,-10.55) 48(-3.25,-10.55) 49(-2.75,-10.55) 50(-2.25,-10.55) 51(-1.75,-10.55) 52(-1.25,-10.55) 53(-0.75,-10.55) 54(-0.25,-10.55) 55(0.25,-10.55) 56(0.75,-10.55) 57(1.25,-10.55) 58(1.75,-10.55) 59(2.25,-10.55) 60(2.75,-10.55) 61(3.25,-10.55) 62(3.75,-10.55) 63(4.25,-10.55) 64(4.75,-10.55) 65(5.25,-10.55) 66(5.75,-10.55) 67(6.25,-10.55) 68(6.75,-10.55) 69(7.25,-10.55) 70(7.75,-10.55) 71(8.25,-10.55) 72(8.75,-10.55) 109(8.75,10.55) 110(8.25,10.55) 111(7.75,10.55) 112(7.25,10.55) 113(6.75,10.55) 114(6.25,10.55) 115(5.75,10.55) 116(5.25,10.55) 117(4.75,10.55) 118(4.25,10.55) 119(3.75,10.55) 120(3.25,10.55) 121(2.75,10.55) 122(2.25,10.55) 123(1.75,10.55) 124(1.25,10.55) 125(0.75,10.55) 126(0.25,10.55) 127(-0.25,10.55) 128(-0.75,10.55) 129(-1.25,10.55) 130(-1.75,10.55) 131(-2.25,10.55) 132(-2.75,10.55) 133(-3.25,10.55) 134(-3.75,10.55) 135(-4.25,10.55) 136(-4.75,10.55) 137(-5.25,10.55) 138(-5.75,10.55) 139(-6.25,10.55) 140(-6.75,10.55) 141(-7.25,10.55) 142(-7.75,10.55) 143(-8.25,10.55) 144(-8.75,10.55)
Top Overlay:
  circle w0.6: c-8.25,8.25 r0.3
  circle w0.25: c-10.55,9.45 r0.125
  lines w0.2: -9.25,-9.25 9.25,-9.25 9.25,9.25 -9.25,9.25 -9.25,-9.25
Mechanical 13:
  circle w0.1: c-9.1,9.1 r0.5
  lines w0.1: -10,-10 10,-10 10,10 -10,10 -10,-10
Mechanical 15:
  lines w0.05: -11.7,-11.7 11.7,-11.7 11.7,11.7 -11.7,11.7 -11.7,-11.7
  lines w0.1: -0.5,0 0.5,0 ; 0,-0.5 0,0.5
3D body: height 1.6, standoff 0, extent -10,-10 10,10

## TQFP144_V [mm] "Thin QFP, 144-Leads, Body 20x20mm, Pitch 0.5mm, ST Recommended"
height 1.6
pads (144):
  rect 1.35x0.35 smd: 1(-10.625,8.75) 2(-10.625,8.25) 3(-10.625,7.75) 4(-10.625,7.25) 5(-10.625,6.75) 6(-10.625,6.25) 7(-10.625,5.75) 8(-10.625,5.25) 9(-10.625,4.75) 10(-10.625,4.25) 11(-10.625,3.75) 12(-10.625,3.25) 13(-10.625,2.75) 14(-10.625,2.25) 15(-10.625,1.75) 16(-10.625,1.25) 17(-10.625,0.75) 18(-10.625,0.25) 19(-10.625,-0.25) 20(-10.625,-0.75) 21(-10.625,-1.25) 22(-10.625,-1.75) 23(-10.625,-2.25) 24(-10.625,-2.75) 25(-10.625,-3.25) 26(-10.625,-3.75) 27(-10.625,-4.25) 28(-10.625,-4.75) 29(-10.625,-5.25) 30(-10.625,-5.75) 31(-10.625,-6.25) 32(-10.625,-6.75) 33(-10.625,-7.25) 34(-10.625,-7.75) 35(-10.625,-8.25) 36(-10.625,-8.75) 73(10.625,-8.75) 74(10.625,-8.25) 75(10.625,-7.75) 76(10.625,-7.25) 77(10.625,-6.75) 78(10.625,-6.25) 79(10.625,-5.75) 80(10.625,-5.25) 81(10.625,-4.75) 82(10.625,-4.25) 83(10.625,-3.75) 84(10.625,-3.25) 85(10.625,-2.75) 86(10.625,-2.25) 87(10.625,-1.75) 88(10.625,-1.25) 89(10.625,-0.75) 90(10.625,-0.25) 91(10.625,0.25) 92(10.625,0.75) 93(10.625,1.25) 94(10.625,1.75) 95(10.625,2.25) 96(10.625,2.75) 97(10.625,3.25) 98(10.625,3.75) 99(10.625,4.25) 100(10.625,4.75) 101(10.625,5.25) 102(10.625,5.75) 103(10.625,6.25) 104(10.625,6.75) 105(10.625,7.25) 106(10.625,7.75) 107(10.625,8.25) 108(10.625,8.75)
  rect 0.35x1.35 smd: 37(-8.75,-10.625) 38(-8.25,-10.625) 39(-7.75,-10.625) 40(-7.25,-10.625) 41(-6.75,-10.625) 42(-6.25,-10.625) 43(-5.75,-10.625) 44(-5.25,-10.625) 45(-4.75,-10.625) 46(-4.25,-10.625) 47(-3.75,-10.625) 48(-3.25,-10.625) 49(-2.75,-10.625) 50(-2.25,-10.625) 51(-1.75,-10.625) 52(-1.25,-10.625) 53(-0.75,-10.625) 54(-0.25,-10.625) 55(0.25,-10.625) 56(0.75,-10.625) 57(1.25,-10.625) 58(1.75,-10.625) 59(2.25,-10.625) 60(2.75,-10.625) 61(3.25,-10.625) 62(3.75,-10.625) 63(4.25,-10.625) 64(4.75,-10.625) 65(5.25,-10.625) 66(5.75,-10.625) 67(6.25,-10.625) 68(6.75,-10.625) 69(7.25,-10.625) 70(7.75,-10.625) 71(8.25,-10.625) 72(8.75,-10.625) 109(8.75,10.625) 110(8.25,10.625) 111(7.75,10.625) 112(7.25,10.625) 113(6.75,10.625) 114(6.25,10.625) 115(5.75,10.625) 116(5.25,10.625) 117(4.75,10.625) 118(4.25,10.625) 119(3.75,10.625) 120(3.25,10.625) 121(2.75,10.625) 122(2.25,10.625) 123(1.75,10.625) 124(1.25,10.625) 125(0.75,10.625) 126(0.25,10.625) 127(-0.25,10.625) 128(-0.75,10.625) 129(-1.25,10.625) 130(-1.75,10.625) 131(-2.25,10.625) 132(-2.75,10.625) 133(-3.25,10.625) 134(-3.75,10.625) 135(-4.25,10.625) 136(-4.75,10.625) 137(-5.25,10.625) 138(-5.75,10.625) 139(-6.25,10.625) 140(-6.75,10.625) 141(-7.25,10.625) 142(-7.75,10.625) 143(-8.25,10.625) 144(-8.75,10.625)
Top Overlay:
  circle w0.6: c-8.55,8.55 r0.3
  circle w0.25: c-10.625,9.475 r0.125
  lines w0.2: -9.55,-9.55 9.55,-9.55 9.55,9.55 -9.55,9.55 -9.55,-9.55
Mechanical 13:
  circle w0.1: c-9.1,9.1 r0.5
  lines w0.1: -10,-10 10,-10 10,10 -10,10 -10,-10
Mechanical 15:
  lines w0.05: -11.4,-11.4 11.4,-11.4 11.4,11.4 -11.4,11.4 -11.4,-11.4
  lines w0.1: -0.5,0 0.5,0 ; 0,-0.5 0,0.5
3D body: height 1.6, standoff 0.05, extent -10,-10 10,10

## TSSOP20 [mm] "TSSOP, 20-Leads, Body 6.50x4.40mm, Pitch 0.65mm, IPC Medium Density"
height 1.2
pads (20):
  oval 1.5x0.45 smd: 1(-2.9,2.925) 2(-2.9,2.275) 3(-2.9,1.625) 4(-2.9,0.975) 5(-2.9,0.325) 6(-2.9,-0.325) 7(-2.9,-0.975) 8(-2.9,-1.625) 9(-2.9,-2.275) 10(-2.9,-2.925) 11(2.9,-2.925) 12(2.9,-2.275) 13(2.9,-1.625) 14(2.9,-0.975) 15(2.9,-0.325) 16(2.9,0.325) 17(2.9,0.975) 18(2.9,1.625) 19(2.9,2.275) 20(2.9,2.925)
Top Overlay:
  circle w0.25: c-2.9,3.7 r0.125
  circle w0.6: c-0.75,2.2 r0.3
  lines w0.2: -1.75,-3.2 -1.75,3.2 1.75,3.2 1.75,-3.2 -1.75,-3.2
Mechanical 13:
  circle w0.1: c-1.25,2.3 r0.5
  lines w0.1: -2.15,-3.2 -2.15,3.2 2.15,3.2 2.15,-3.2 -2.15,-3.2
Mechanical 15:
  lines w0.05: -3.875,-3.45 -3.875,3.45 3.875,3.45 3.875,-3.45 -3.875,-3.45
  lines w0.1: -0.5,0 0.5,0 ; 0,-0.5 0,0.5
3D body: height 1.2, standoff 0.15, extent -2.15,-3.2 2.15,3.2

## VQFN64 [mm]
pads (89):
  oval 0.8x0.24 smd paste-0.102 mask+0.051: 1(-4.5,3.75) 2(-4.5,3.25) 3(-4.5,2.75) 4(-4.5,2.25) 5(-4.5,1.75) 6(-4.5,1.25) 7(-4.5,0.75) 8(-4.5,0.25) 9(-4.5,-0.25) 10(-4.5,-0.75) 11(-4.5,-1.25) 12(-4.5,-1.75) 13(-4.5,-2.25) 14(-4.5,-2.75) 15(-4.5,-3.25) 16(-4.5,-3.75) 33(4.5,-3.75) 34(4.5,-3.25) 35(4.5,-2.75) 36(4.5,-2.25) 37(4.5,-1.75) 38(4.5,-1.25) 39(4.5,-0.75) 40(4.5,-0.25) 41(4.5,0.25) 42(4.5,0.75) 43(4.5,1.25) 44(4.5,1.75) 45(4.5,2.25) 46(4.5,2.75) 47(4.5,3.25) 48(4.5,3.75)
  oval 0.24x0.8 smd paste-0.102 mask+0.051: 17(-3.751,-4.5) 18(-3.251,-4.5) 19(-2.751,-4.5) 20(-2.251,-4.5) 21(-1.75,-4.5) 22(-1.25,-4.5) 23(-0.75,-4.5) 24(-0.25,-4.5) 25(0.25,-4.5) 26(0.75,-4.5) 27(1.25,-4.5) 28(1.75,-4.5) 29(2.251,-4.5) 30(2.751,-4.5) 31(3.251,-4.5) 32(3.751,-4.5) 49(3.751,4.5) 50(3.251,4.5) 51(2.751,4.5) 52(2.251,4.5) 53(1.75,4.5) 54(1.25,4.5) 55(0.75,4.5) 56(0.25,4.5) 57(-0.25,4.5) 58(-0.75,4.5) 59(-1.25,4.5) 60(-1.75,4.5) 61(-2.251,4.5) 62(-2.751,4.5) 63(-3.251,4.5) 64(-3.751,4.5)
  rect 7.25x7.25 smd paste-3.612 mask+0.051: 65(0,0)
  round 0.5 / inner round 1.524 / far side round 0.5 hole 0.203 mask+0.051: V(-3.375,-2.272) V(-3.375,0) V(-3.375,2.272) V(-2.272,-3.375) V(-2.272,-1.136) V(-2.272,1.136) V(-2.272,3.375) V(-1.136,-2.272) V(-1.136,0) V(-1.136,2.272) V(0,-3.375) V(0,-1.136) V(0,1.136) V(0,3.375) V(1.136,-2.272) V(1.136,0) V(1.136,2.272) V(2.272,-3.375) V(2.272,-1.136) V(2.272,1.136) V(2.272,3.375) V(3.375,-2.272) V(3.375,0) V(3.375,2.272)
Top Overlay:
  circle w0.3: c-5.4,3.746 r0.1
  lines w0.178: -4.725,-4.525 -4.725,-4.725 -4.525,-4.725 ; -4.725,4.096 -4.725,4.725 -4.097,4.725 ; 4.525,-4.725 4.725,-4.725 4.725,-4.525 ; 4.525,4.725 4.725,4.725 4.725,4.525
Top Paste:
  region: 0.1,-0.1 0.1,-1.036 1.036,-1.036 1.036,-0.1
  region: 1.236,-0.1 1.236,-1.036 2.172,-1.036 2.172,-0.1
  region: 2.372,-0.1 2.372,-1.036 3.308,-1.036 3.308,-0.1
  region: -2.372,-1.036 -2.372,-0.1 -3.308,-0.1 -3.308,-1.036
  region: -1.236,-1.036 -1.236,-0.1 -2.172,-0.1 -2.172,-1.036
  region: -0.1,-1.036 -0.1,-0.1 -1.036,-0.1 -1.036,-1.036
  region: -0.1,-2.172 -0.1,-1.236 -1.036,-1.236 -1.036,-2.172
  region: -1.236,-2.172 -1.236,-1.236 -2.172,-1.236 -2.172,-2.172
  region: -2.372,-2.172 -2.372,-1.236 -3.308,-1.236 -3.308,-2.172
  region: 2.372,-1.236 2.372,-2.172 3.308,-2.172 3.308,-1.236
  region: 1.236,-1.236 1.236,-2.172 2.172,-2.172 2.172,-1.236
  region: 0.1,-1.236 0.1,-2.172 1.036,-2.172 1.036,-1.236
  region: 0.1,-2.372 0.1,-3.308 1.036,-3.308 1.036,-2.372
  region: 1.236,-2.372 1.236,-3.308 2.172,-3.308 2.172,-2.372
  region: 2.372,-2.372 2.372,-3.308 3.308,-3.308 3.308,-2.372
  region: -2.372,-3.308 -2.372,-2.372 -3.308,-2.372 -3.308,-3.308
  region: -1.236,-3.308 -1.236,-2.372 -2.172,-2.372 -2.172,-3.308
  region: -0.1,-3.308 -0.1,-2.372 -1.036,-2.372 -1.036,-3.308
  region: -0.1,2.372 -0.1,3.308 -1.036,3.308 -1.036,2.372
  region: -1.236,2.372 -1.236,3.308 -2.172,3.308 -2.172,2.372
  region: -2.372,2.372 -2.372,3.308 -3.308,3.308 -3.308,2.372
  region: 2.372,3.308 2.372,2.372 3.308,2.372 3.308,3.308
  region: 1.236,3.308 1.236,2.372 2.172,2.372 2.172,3.308
  region: 0.1,3.308 0.1,2.372 1.036,2.372 1.036,3.308
  region: 0.1,2.172 0.1,1.236 1.036,1.236 1.036,2.172
  region: 1.236,2.172 1.236,1.236 2.172,1.236 2.172,2.172
  region: 2.372,2.172 2.372,1.236 3.308,1.236 3.308,2.172
  region: -2.372,1.236 -2.372,2.172 -3.308,2.172 -3.308,1.236
  region: -1.236,1.236 -1.236,2.172 -2.172,2.172 -2.172,1.236
  region: -0.1,1.236 -0.1,2.172 -1.036,2.172 -1.036,1.236
  region: -0.1,0.1 -0.1,1.036 -1.036,1.036 -1.036,0.1
  region: -1.236,0.1 -1.236,1.036 -2.172,1.036 -2.172,0.1
  region: -2.372,0.1 -2.372,1.036 -3.308,1.036 -3.308,0.1
  region: 2.372,1.036 2.372,0.1 3.308,0.1 3.308,1.036
  region: 1.236,1.036 1.236,0.1 2.172,0.1 2.172,1.036
  region: 0.1,1.036 0.1,0.1 1.036,0.1 1.036,1.036
Mechanical 13:
  circle w0.1: c-3.85,3.75 r0.3
  lines w0.127: -4.575,-4.575 4.575,-4.575 4.575,4.575 -4.575,4.575 -4.575,-4.575 ; -4.575,-3.9 -4.575,-3.6 -4.575,-3.9 ; -4.575,-3.4 -4.575,-3.1 -4.575,-3.4 ; -4.575,-2.9 -4.575,-2.6 -4.575,-2.9 ; -4.575,-2.4 -4.575,-2.1 -4.575,-2.4 ; -4.575,-1.9 -4.575,-1.6 -4.575,-1.9 ; -4.575,-1.4 -4.575,-1.1 -4.575,-1.4 ; -4.575,-0.9 -4.575,-0.6 -4.575,-0.9 ; -4.575,-0.4 -4.575,-0.1 -4.575,-0.4 ; -4.575,0.1 -4.575,0.4 -4.575,0.1 ; -4.575,0.6 -4.575,0.9 -4.575,0.6 ; -4.575,1.1 -4.575,1.4 -4.575,1.1 ; -4.575,1.6 -4.575,1.9 -4.575,1.6 ; -4.575,2.1 -4.575,2.4 -4.575,2.1 ; -4.575,2.6 -4.575,2.9 -4.575,2.6 ; -4.575,3.1 -4.575,3.4 -4.575,3.1 ; -4.575,3.6 -4.575,3.9 -4.575,3.6 ; -3.9,-4.575 -3.6,-4.575 -3.9,-4.575 ; -3.9,4.575 -3.6,4.575 -3.9,4.575 ; -3.4,-4.575 -3.1,-4.575 -3.4,-4.575 ; -3.4,4.575 -3.1,4.575 -3.4,4.575 ; -2.9,-4.575 -2.6,-4.575 -2.9,-4.575 ; -2.9,4.575 -2.6,4.575 -2.9,4.575 ; -2.4,-4.575 -2.1,-4.575 -2.4,-4.575 ; -2.4,4.575 -2.1,4.575 -2.4,4.575 ; -1.9,-4.575 -1.6,-4.575 -1.9,-4.575 ; -1.9,4.575 -1.6,4.575 -1.9,4.575 ; -1.4,-4.575 -1.1,-4.575 -1.4,-4.575 ; -1.4,4.575 -1.1,4.575 -1.4,4.575 ; -0.9,-4.575 -0.6,-4.575 -0.9,-4.575 ; -0.9,4.575 -0.6,4.575 -0.9,4.575 ; -0.4,-4.575 -0.1,-4.575 -0.4,-4.575 ; -0.4,4.575 -0.1,4.575 -0.4,4.575 ; 0.1,-4.575 0.4,-4.575 0.1,-4.575 ; 0.1,4.575 0.4,4.575 0.1,4.575 ; 0.6,-4.575 0.9,-4.575 0.6,-4.575 ; 0.6,4.575 0.9,4.575 0.6,4.575 ; 1.1,-4.575 1.4,-4.575 1.1,-4.575 ; 1.1,4.575 1.4,4.575 1.1,4.575 ; 1.6,-4.575 1.9,-4.575 1.6,-4.575 ; 1.6,4.575 1.9,4.575 1.6,4.575 ; 2.1,-4.575 2.4,-4.575 2.1,-4.575 ; 2.1,4.575 2.4,4.575 2.1,4.575 ; 2.6,-4.575 2.9,-4.575 2.6,-4.575 ; 2.6,4.575 2.9,4.575 2.6,4.575 ; 3.1,-4.575 3.4,-4.575 3.1,-4.575 ; 3.1,4.575 3.4,4.575 3.1,4.575 ; 3.6,-4.575 3.9,-4.575 3.6,-4.575 ; 3.6,4.575 3.9,4.575 3.6,4.575 ; 4.575,-3.9 4.575,-3.6 4.575,-3.9 ; 4.575,-3.4 4.575,-3.1 4.575,-3.4 ; 4.575,-2.9 4.575,-2.6 4.575,-2.9 ; 4.575,-2.4 4.575,-2.1 4.575,-2.4 ; 4.575,-1.9 4.575,-1.6 4.575,-1.9 ; 4.575,-1.4 4.575,-1.1 4.575,-1.4 ; 4.575,-0.9 4.575,-0.6 4.575,-0.9 ; 4.575,-0.4 4.575,-0.1 4.575,-0.4 ; 4.575,0.1 4.575,0.4 4.575,0.1 ; 4.575,0.6 4.575,0.9 4.575,0.6 ; 4.575,1.1 4.575,1.4 4.575,1.1 ; 4.575,1.6 4.575,1.9 4.575,1.6 ; 4.575,2.1 4.575,2.4 4.575,2.1 ; 4.575,2.6 4.575,2.9 4.575,2.6 ; 4.575,3.1 4.575,3.4 4.575,3.1 ; 4.575,3.6 4.575,3.9 4.575,3.6
3D body: height 0.25, standoff 0, extent 0,0 0.254,0.254